# Altium footprint library MicroFET_2x2.PcbLib: 1 footprints
Each footprint in its own frame and in the unit in brackets; x right, y up, seen from the top. Pads: shape width x height; smd on the part's side, far side on the other; paste and mask are expansions set on the pad; w line width, h text height; cw(c..) or ccw(c..) is an arc to the next point about the centre after c.
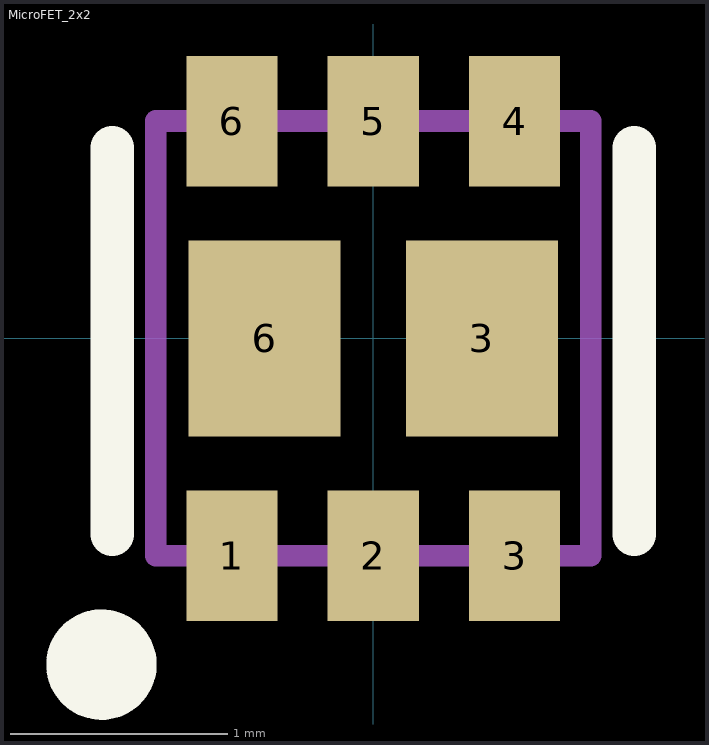
[diagram p0: the footprint, top view; thin cyan lines are the x and y axes]

## MicroFET_2x2 [mm]
pads (8):
  rect 0.42x0.6 smd mask+0.051: 1(-0.65,-1) 2(0,-1) 3(0.65,-1) 4(0.65,1) 5(0,1) 6(-0.65,1)
  rect 0.7x0.9 smd mask+0.051: 3(0.5,0) 6(-0.5,0)
Top Overlay:
  circle w0.254: c-1.25,-1.5 r0.127
  lines w0.2: -1.2,-0.9 -1.2,0.878 ; 1.2,-0.9 1.2,0.878
Mechanical 13:
  lines w0.1: -1,-1 1,-1 1,1 -1,1 -1,-1